# EAGLE library part DUAL-POT (library jt_parts)
Panasonic EVJY Potentiometer Vertical No Bushing
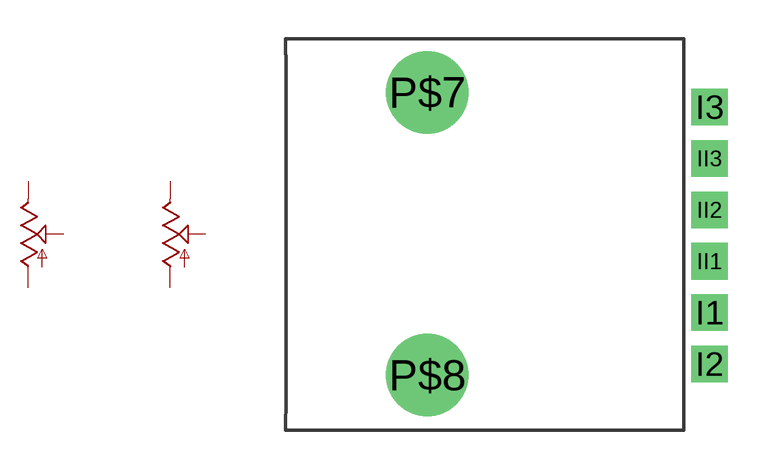
[diagram p0: symbol with the pads of POT-PANASONIC-EVYJ; footprint POT-PANASONIC-EVYJ]

Designator prefix -; gates G$1=POTENTIOMETER G$2=POTENTIOMETER

## DUAL-POT  [POT-PANASONIC-EVYJ]
I1  G$1:1  pas
I2  G$1:2  pas
I3  G$1:3  pas
II1  G$2:1  pas
II2  G$2:2  pas
II3  G$2:3  pas

## Footprint POT-PANASONIC-EVYJ (pad centres in mm)
Panasonic EVJY vertically-mounted potentiometer with no-bushing.
drill 0.8 pad 1.422 square: I1 7.62,-3.05; I2 7.62,-5.05; I3 7.62,4.95; II1 7.62,-1.05; II2 7.62,0.95; II3 7.62,2.95
drill 2.184: P$7 -3.38,5.52; P$8 -3.38,-5.48